# Altium schematic symbol library ReceiverLoRa.SchLib: 20 symbols
Pins are listed as number, name and electrical type; pins without a type are passive.

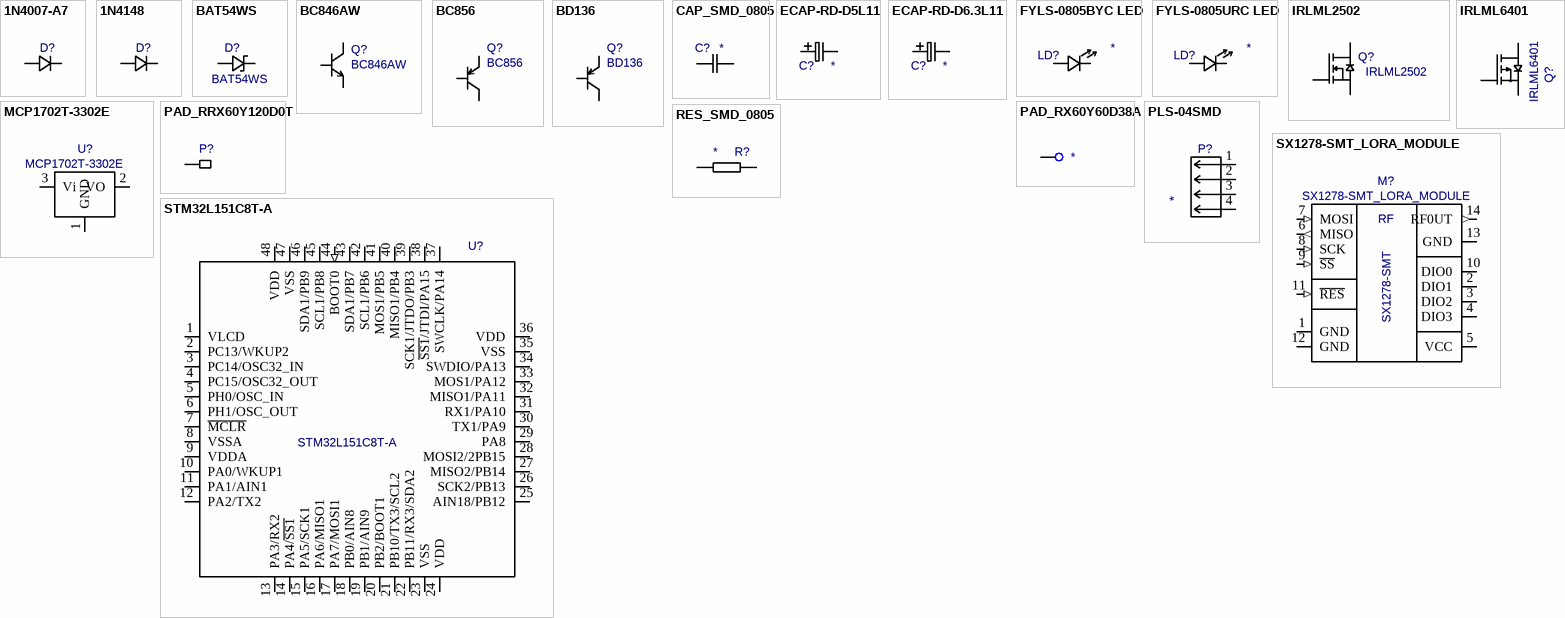
[diagram p0: symbols 1N4007-A7 to SX1278-SMT_LORA_MODULE]

## 1N4007-A7
designator D?  (value not drawn)
Value: *
footprint SOD-123FL
pins: 1 A, 2 K

## 1N4148
designator D?  (value not drawn)
Value: *
footprint SOD80
pins: A, K

## BAT54WS
designator D?
Value: *
footprint SOD323
pins: 1, 2

## BC846AW
designator Q?
Value: *
footprint SOT23
pins: 1 B, 2 E, 3 C

## BC856
designator Q?
Value: *
footprint SOT23
pins: 1 B, 2 E, 3 C

## BD136
designator Q?
Value: *
footprint TO225 VH
pins: 1 E, 2 K, 3 B

## CAP_SMD_0805
designator C?  (value not drawn)
Value: *
footprint C0805
pins: 1 A, 2 B

## ECAP-RD-D5L11
designator C?  (value not drawn)
Value: *
footprint ECAP-SD-D5L11
pins: 1, 2

## ECAP-RD-D6.3L11
designator C?  (value not drawn)
Value: *
footprint ECAP-SD-D6.3L11
pins: 1, 2

## FYLS-0805BYC LED
designator LD?  (value not drawn)
Value: *
footprint LED_SMD_0805
pins: A, K

## FYLS-0805URC LED
designator LD?  (value not drawn)
Value: *
footprint LED_SMD_0805
pins: A, K

## IRLML2502
designator Q?
Value: *
footprint SOT23
pins: 1 G, 2 S, 3 D

## IRLML6401
designator Q?
Value: *
footprint SOT23
pins: 1 G, 2 S, 3 D

## MCP1702T-3302E
designator U?
Value: *
footprint SOT23A
pins: 1 GND, 2 VO, 3 Vi

## PAD_RRX60Y120D0T
designator P?  (value not drawn)
Value: *
footprint PAD_RRX60Y120D0T
pins: 1

## PAD_RX60Y60D38A
designator PP?  (value not drawn)
Value: *
footprint PAD_RX60Y60D38A
pins: 1

## PLS-04SMD
designator P?  (value not drawn)
Value: *
footprint PLS-04SMD
pins: 1, 2, 3, 4

## RES_SMD_0805
designator R?  (value not drawn)
Value: *
footprint R0805
pins: 1, 2

## STM32L151C8T-A
designator U?
Value: *
footprint LQFP48 7X7
pins: 1 VLCD (power), 2 PC13/WKUP2 (io), 3 PC14/OSC32_IN (io), 4 PC15/OSC32_OUT (io), 5 PH0/OSC_IN (io), 6 PH1/OSC_OUT (io), 7 ~{MCLR} (io), 8 VSSA (power), 9 VDDA (power), 10 PA0/WKUP1 (io), 11 PA1/AIN1 (io), 12 PA2/TX2 (io), 13 PA3/RX2 (io), 14 PA4/~{SS1} (io), 15 PA5/SCK1 (io), 16 PA6/MISO1 (io), 17 PA7/MOSI1 (io), 18 PB0/AIN8 (io), 19 PB1/AIN9 (io), 20 PB2/BOOT1 (io), 21 PB10/TX3/SCL2 (io), 22 PB11/RX3/SDA2 (io), 23 VSS (power), 24 VDD (power), 25 AIN18/PB12 (io), 26 SCK2/PB13 (io), 27 MISO2/PB14 (io), 28 MOSI2/2PB15 (io), 29 PA8 (io), 30 TX1/PA9 (io), 31 RX1/PA10 (io), 32 MISO1/PA11 (io), 33 MOS1/PA12 (io), 34 SWDIO/PA13 (io), 35 VSS (power), 36 VDD (power), 37 SWCLK/PA14 (io), 38 ~{SS1}/JTDI/PA15 (io), 39 SCK1/JTDO/PB3 (io), 40 MISO1/PB4 (io), 41 MOS1/PB5 (io), 42 SCL1/PB6 (io), 43 SDA1/PB7 (io), 44 BOOT0 (in), 45 SCL1/PB8 (io), 46 SDA1/PB9 (io), 47 VSS (power), 48 VDD (power)

## SX1278-SMT_LORA_MODULE
designator M?
Value: *
footprint SX1278-SMT_MODULE
pins: 1 GND (power), 2 DIO1 (io), 3 DIO2 (io), 4 DIO3 (io), 5 VCC (power), 6 MISO (out), 7 MOSI (in), 8 SCK (in), 9 ~{SS} (in), 10 DIO0 (io), 11 ~{RES} (in), 12 GND (power), 13 GND (power), 14 RF0UT (out)
text: RF; SX1278-SMT